# EAGLE library part SN75158 (library ti)
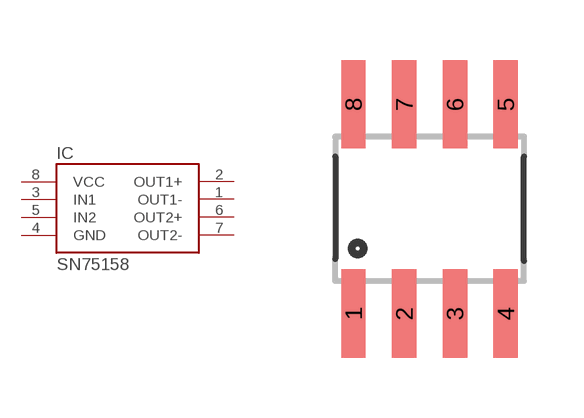
[diagram p9: symbol with the pads of SO08; footprint SO08]

Designator prefix IC

## SN75158D  [SO08]
1  OUT1-  pas
2  OUT1+  pas
3  IN1  pas
4  GND  pas
5  IN2  pas
6  OUT2+  pas
7  OUT2-  pas
8  VCC  pas

## Footprint SO08 (pad centres in mm)
Small Outline Package Fits JEDEC packages (narrow SOIC-8)
smd 0.61 x 2.21: 1 -1.905,-2.616; 2 -0.635,-2.616; 3 0.635,-2.616; 4 1.905,-2.616; 5 1.905,2.616; 6 0.635,2.616; 7 -0.635,2.616; 8 -1.905,2.616